# EAGLE library part RGB_WW-FCE50TC-Q1 (library !stavebnice03)
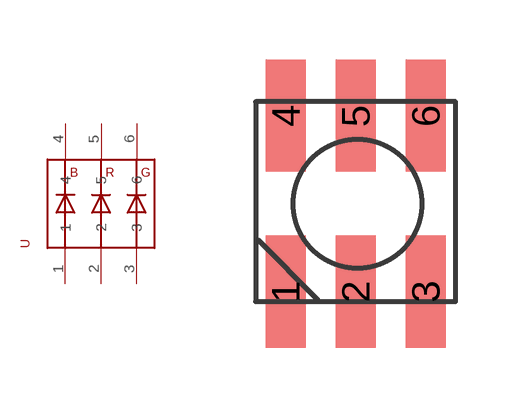
[diagram p7: symbol with the pads of RGB_WW-FCE50TC-Q1; footprint RGB_WW-FCE50TC-Q1]

Designator prefix -

## RGB_WW-FCE50TC-Q1  [RGB_WW-FCE50TC-Q1]
1  1
2  2
3  3
4  4
5  5
6  6

## Footprint RGB_WW-FCE50TC-Q1 (pad centres in mm)
smd 1 x 2.8: 1 -1.778,-2.286; 2 -0.028,-2.286; 3 1.722,-2.286; 4 -1.778,2.114; 5 -0.028,2.114; 6 1.722,2.114